# Altium footprint library LegacyTOxx.PcbLib: 110 footprints (part 1 of 7)
Each footprint in its own frame and in the unit in brackets; x right, y up, seen from the top. Pads: shape width x height; smd on the part's side, far side on the other; paste and mask are expansions set on the pad; w line width, h text height; cw(c..) or ccw(c..) is an arc to the next point about the centre after c.
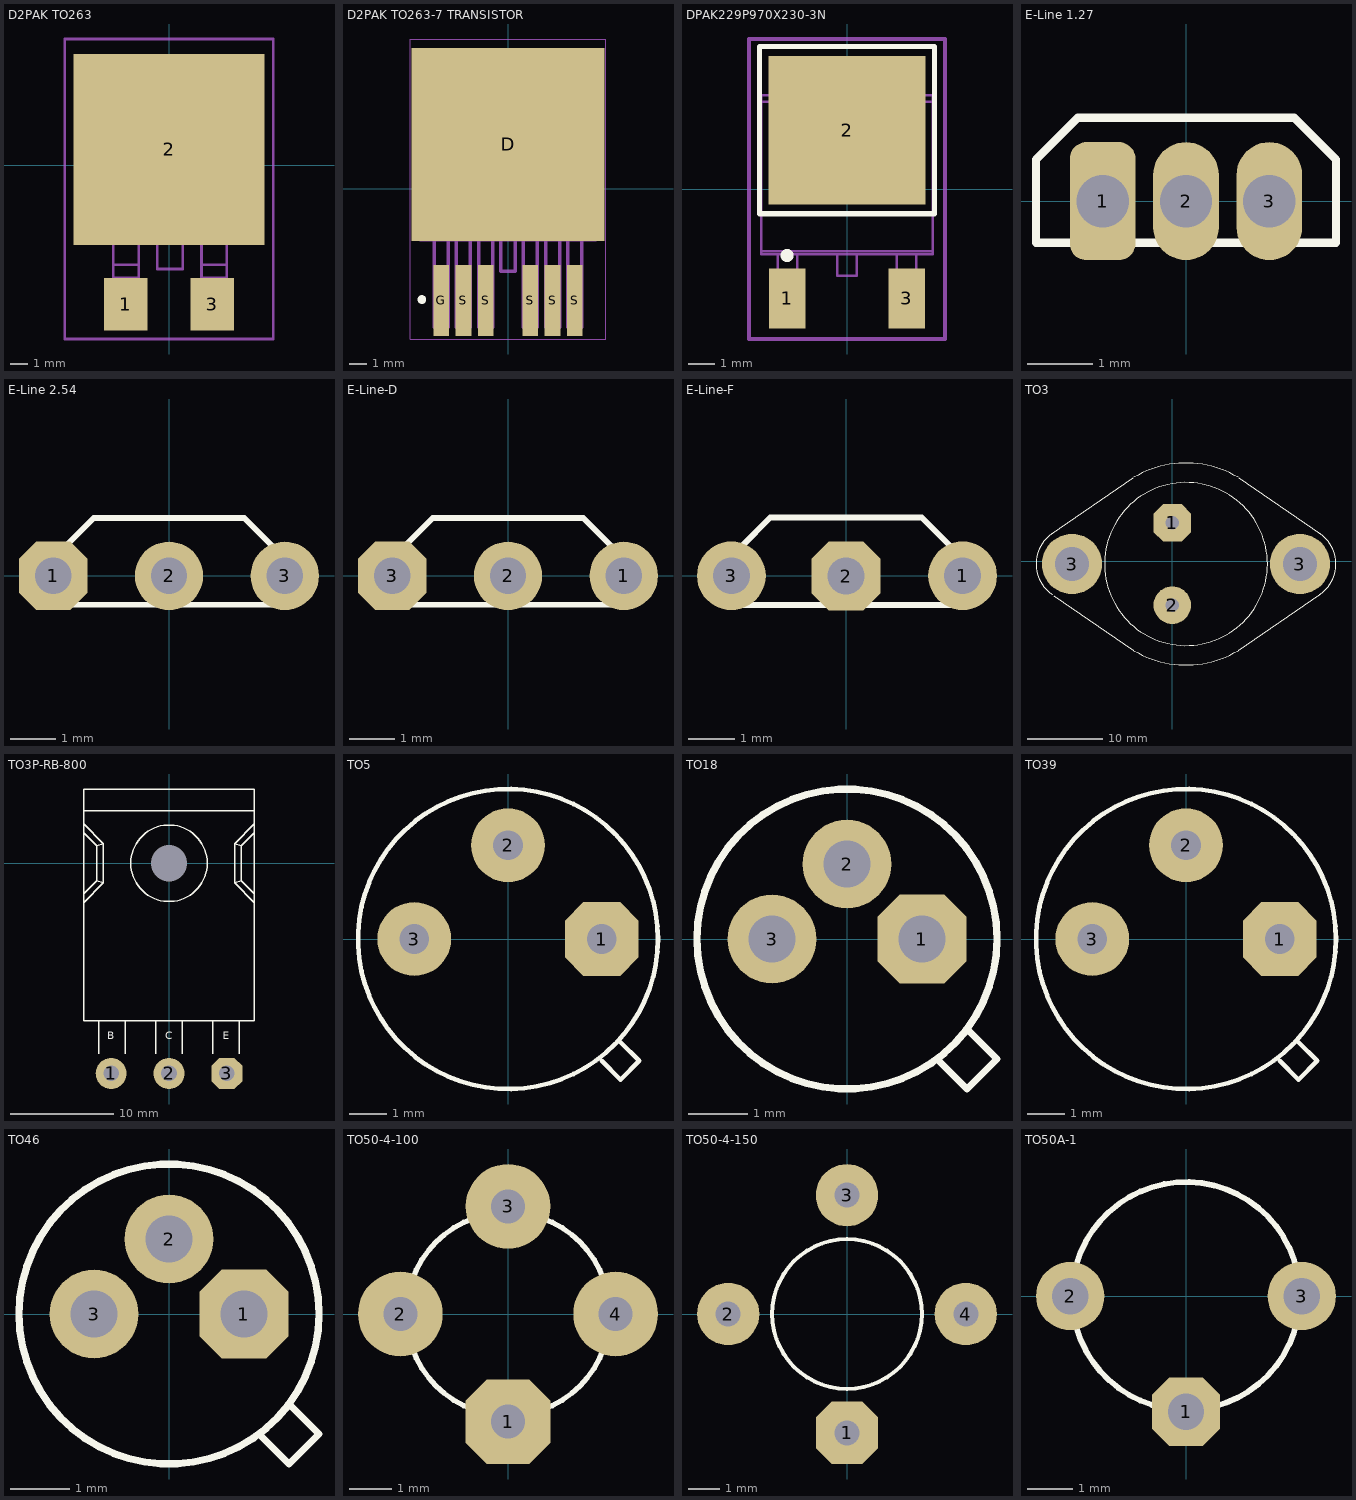
[diagram p0: the footprints below, top view; thin cyan lines are the x and y axes]

## D2PAK TO263 [mm]
pads (3):
  rect 2.5x3 smd: 1(-2.5,-8) 3(2.5,-8)
  rect 11x11 smd: 2(0,0.9)
Mechanical13:
  lines w0.15: -3.209,-4.263 -5.019,-4.263 ; -1.749,-4.263 -0.669,-4.263 ; 0.791,-4.263 1.871,-4.263 ; 3.331,-4.263 5.141,-4.263 ; -5.019,-4.263 -4.705,-3.949 ; -5.019,-4.263 -5.019,4.752 ; -5.019,4.752 -4.705,4.438 ; -5.019,4.752 -4.888,4.882 ; -4.888,4.882 5.011,4.882 ; -4.888,4.882 -4.888,5.226 -3.388,6.092 3.511,6.092 5.011,5.226 5.011,4.882 ; -4.705,-3.949 -4.705,4.438 ; -4.705,-3.949 4.827,-3.949 ; -4.705,4.438 4.827,4.438 ; -3.209,-6.49 -3.209,-5.729 ; -3.209,-6.49 -3.209,-6.806 -2.854,-6.806 -2.854,-7.122 ; -3.209,-6.49 -1.749,-6.49 ; -3.209,-5.729 -3.209,-4.193 -1.749,-4.193 -1.749,-5.729 ; -3.209,-5.729 -1.749,-5.729 ; -2.854,-9.135 -2.104,-9.135 ; -2.854,-9.135 -2.854,-7.395 ; -2.854,-9.135 -2.854,-9.172 -2.104,-9.172 -2.104,-9.135 ; -2.854,-7.395 -2.854,-7.122 ; -2.854,-7.395 -2.104,-7.395 ; -2.854,-7.122 -2.104,-7.122 ; -2.104,-9.135 -2.104,-7.395 ; -2.104,-7.395 -2.104,-7.122 ; -2.104,-7.122 -2.104,-6.806 -1.749,-6.806 -1.749,-6.49 ; -1.749,-6.49 -1.749,-5.729 ; 1.871,-6.49 1.871,-5.729 ; 1.871,-6.49 1.871,-6.806 2.226,-6.806 2.226,-7.122 ; 1.871,-6.49 3.331,-6.49 ; 1.871,-5.729 1.871,-4.193 3.331,-4.193 3.331,-5.729 ; 1.871,-5.729 3.331,-5.729 ; 2.226,-9.135 2.976,-9.135 ; 2.226,-9.135 2.226,-7.395 ; 2.226,-9.135 2.226,-9.172 2.976,-9.172 2.976,-9.135 ; 2.226,-7.395 2.226,-7.122 ; 2.226,-7.395 2.976,-7.395 ; 2.226,-7.122 2.976,-7.122 ; 2.976,-9.135 2.976,-7.395 ; 2.976,-7.395 2.976,-7.122 ; 2.976,-7.122 2.976,-6.806 3.331,-6.806 3.331,-6.49 ; 3.331,-6.49 3.331,-5.729 ; 4.827,-3.949 5.141,-4.263 ; 4.827,-3.949 4.827,4.438 ; 4.827,4.438 5.141,4.752 ; 5.011,4.882 5.141,4.752 ; 5.141,-4.263 5.141,4.752 ; -0.669,-5.973 0.791,-5.973 0.791,-4.193 -0.669,-4.193 -0.669,-5.973
Mechanical15:
  lines w0.15: -6,-10 6,-10 6,7.25 -6,7.25 -6,-10
3D body "User Library-DPAK (1).step": height 4.98, standoff -0.03, extent -5.08,-9.25 5.08,6.014

## D2PAK TO263-7 TRANSISTOR [mm] "D2-PAK, 7-Pads, Body 7,93x8,69mm (max), IPC Medium Density"
height 4.8
pads (7):
  rect 11x11 smd: D(0,2.54)
  rect 0.9x4.05 smd: G(-3.81,-6.35) S(-2.54,-6.35) S(-1.27,-6.35) S(1.27,-6.35) S(2.54,-6.35) S(3.81,-6.35)
TopOverlay:
  circle w0.25: c-4.91,-6.3 r0.125
Mechanical13:
  drawing of 182 lines, arcs and shapes, not listed
Mechanical15:
  lines w0.05: -5.575,-8.55 -5.575,8.55 5.575,8.55 5.575,-8.55 -5.575,-8.55
  lines w0.1: -0.5,0 0.5,0 ; 0,-0.5 0,0.5
3D body "SW3dPS-TO263-7S.STEP": height 4.88, standoff 0.08, extent -5,-7.869 5,7.801

## DPAK229P970X230-3N [mm] "D-PAK, 3-Pads, Body 6,20x6,71mm (max), IPC Medium Density"
height 2.3
pads (3):
  rect 1.4x2.3 smd: 1(-2.286,-4.191) 3(2.286,-4.191)
  rect 6x5.7 smd: 2(0,2.25)
TopOverlay:
  circle w0.25: c-2.3,-2.55 r0.125
  lines w0.2: -3.35,-0.95 3.35,-0.95 3.35,5.461 -3.35,5.461 -3.35,-0.95
Mechanical3:
  text ".Designator / .Comment" at -3.175,-1.016 h1.5
Mechanical13:
  lines w0.1: -3.29,-2.39 -3.29,-2.5 -2.66,-2.5 ; -3.29,-2.39 3.29,-2.39 ; -3.29,-2.39 -3.29,3.35 ; -3.29,3.35 -3.29,3.6 -2.68,3.6 ; -3.29,3.35 3.29,3.35 ; -2.68,3.6 -1.675,3.6 ; -2.68,3.6 -2.68,4.8 -1.93,4.8 -1.93,4.3 1.93,4.3 1.93,4.8 2.68,4.8 2.68,3.6 ; -2.66,-4.3 -2.66,-4.1 ; -2.66,-4.3 -2.66,-4.9 -1.91,-4.9 -1.91,-4.3 ; -2.66,-4.3 -1.91,-4.3 ; -2.66,-4.1 -1.91,-4.1 ; -2.66,-4.1 -2.66,-3.45 ; -2.66,-3.45 -2.66,-2.5 ; -2.66,-3.45 -1.91,-3.45 ; -2.66,-2.5 -1.91,-2.5 ; -1.91,-4.3 -1.91,-4.1 ; -1.91,-4.1 -1.91,-3.45 ; -1.91,-3.45 -1.91,-2.5 ; -1.91,-2.5 -0.375,-2.5 ; -1.675,3.6 cw(c-1.43,3.55) -1.43,3.8 1.43,3.8 cw(c1.43,3.55) 1.675,3.6 ; -1.675,3.6 1.675,3.6 ; -0.375,-2.5 0.375,-2.5 ; -0.375,-2.5 -0.375,-3.33 0.375,-3.33 0.375,-2.5 ; 0.375,-2.5 1.91,-2.5 ; 1.675,3.6 2.68,3.6 ; 1.91,-4.3 1.91,-4.1 ; 1.91,-4.3 1.91,-4.9 2.66,-4.9 2.66,-4.3 ; 1.91,-4.3 2.66,-4.3 ; 1.91,-4.1 2.66,-4.1 ; 1.91,-4.1 1.91,-3.45 ; 1.91,-3.45 1.91,-2.5 ; 1.91,-3.45 2.66,-3.45 ; 1.91,-2.5 2.66,-2.5 ; 2.66,-4.3 2.66,-4.1 ; 2.66,-4.1 2.66,-3.45 ; 2.66,-3.45 2.66,-2.5 ; 2.66,-2.5 3.29,-2.5 3.29,-2.39 ; 2.68,3.6 3.29,3.6 3.29,3.35 ; 3.29,-2.39 3.29,3.35
Mechanical15:
  lines w0.15: -0.5,0 0.5,0 ; 0,-0.5 0,0.5 ; -3.75,-5.75 3.75,-5.75 3.75,5.75 -3.75,5.75 -3.75,-5.75
3D body "TO-252.STEP": height 2.35, standoff 0, extent -3.29,-5.06 3.29,5.08

## E-Line 1.27 [mm]
pads (3):
  rrect50% 1x1.8 hole 0.8: 1(-1.27,0)
  oval 1x1.8 hole 0.8: 2(0,0) 3(1.27,0)
TopOverlay:
  lines w0.125: -2.286,-0.635 2.286,-0.635 2.286,0.635 1.651,1.27 -1.651,1.27 -2.286,0.635 -2.286,-0.635
3D body "E-Line-B.STEP": height 7.08, standoff -2, extent -2.4,-0.985 2.4,1.415

## E-Line 2.54 [mm]
pads (3):
  oct 1.5x1.5 hole 0.8: 1(-2.54,0)
  round 1.5 hole 0.8: 2(0,0) 3(2.54,0)
TopOverlay:
  lines w0.125: -2.286,-0.635 2.286,-0.635 2.286,0.635 1.651,1.27 -1.651,1.27 -2.286,0.635 -2.286,-0.635
3D body "E-Line-C.STEP": height 8, standoff -3.02, extent -2.788,-1.205 2.787,1.195

## E-Line-D [mm]
pads (3):
  round 1.5 hole 0.8: 1(2.54,0) 2(0,0)
  oct 1.5x1.5 hole 0.8: 3(-2.54,0)
TopOverlay:
  lines w0.125: -2.286,-0.635 -2.286,0.635 -1.651,1.27 1.651,1.27 2.286,0.635 2.286,-0.635 -2.286,-0.635
3D body "E-Line-C.STEP": height 8, standoff -3.02, extent -2.788,-1.205 2.787,1.195

## E-Line-F [mm]
pads (3):
  round 1.5 hole 0.8: 1(2.54,0) 3(-2.5,0)
  oct 1.5x1.5 hole 0.8: 2(-0.001,-0.005)
TopOverlay:
  lines w0.125: -2.286,-0.635 -2.286,0.635 -1.651,1.27 1.651,1.27 2.286,0.635 2.286,-0.635 -2.286,-0.635
3D body "E-Line-C.STEP": height 8, standoff -3.02, extent -2.788,-1.205 2.787,1.195

## TO3 [mm]
pads (4):
  oct 5x5 hole 1.8: 1(0,5.08)
  round 5 hole 1.8: 2(0,-5.842)
  round 8 hole 4.5: 3(-13.297,-0.381) 3(16.929,-0.381)
TopOverlay:
  circle w0.125: c1.816,-0.381 r10.813
  lines w0.125: -15.964,3.641 -5.169,11.049 ; -15.935,-4.417 cw(c-13.212,-0.381) -15.935,3.655 ; -15.752,-4.614 -5.169,-11.811 ; -5.085,-11.866 ccw(c1.816,-0.381) 8.717,-11.866 ; -5.085,11.104 cw(c1.816,-0.381) 8.717,11.104 ; 8.801,-11.811 19.596,-4.403 ; 8.801,11.049 19.596,3.641 ; 19.567,-4.417 ccw(c16.844,-0.381) 19.567,3.655

## TO3P-RB-800 [mm]
pads (4):
  round 0 hole 3.5 unplated: 0(0,0)
  round 3 hole 1.5: 1(-5.588,-20.32) 2(0,-20.32)
  oct 3x3 hole 1.5: 3(5.588,-20.32)
TopOverlay:
  circle w0.125: c0,0 r3.698
  lines w0.125: -8.255,-3.81 -6.35,-1.905 ; -8.255,-2.963 -6.985,-1.693 ; -8.255,2.963 -6.985,1.693 ; -8.255,3.81 -6.35,1.905 ; -8.255,5.08 8.255,5.08 ; -6.773,-18.415 -6.773,-15.24 ; -4.233,-18.415 -4.233,-15.24 ; -1.27,-18.415 -1.27,-15.24 ; 1.27,-18.415 1.27,-15.24 ; 4.233,-18.415 4.233,-15.24 ; 6.773,-18.415 6.773,-15.24 ; 8.255,-3.81 6.35,-1.905 ; 8.255,-2.963 6.985,-1.693 ; 8.255,2.963 6.985,1.693 ; 8.255,3.81 6.35,1.905 ; -6.985,-1.693 -6.985,1.693 ; -6.985,-1.693 -6.35,-1.905 ; -6.985,1.693 -6.35,1.905 ; -6.35,-1.905 -6.35,1.905 ; 6.35,-1.905 6.35,1.905 ; 6.35,-1.905 6.985,-1.693 ; 6.35,1.905 6.985,1.693 ; 6.985,-1.693 6.985,1.693 ; -8.255,-15.24 8.255,-15.24 8.255,7.179 -8.255,7.179 -8.255,-15.24
  text "B" at -5.969,-17.272 h1.27
  text "E" at 5.207,-17.272 h1.27
  text "C" at -0.381,-17.272 h1.27
3D body "TO3P-LR.STEP": height 9.39, standoff -6.78, extent -8.001,-20.707 8.001,7.179

## TO5 [mm]
pads (3):
  oct 2x2 hole 0.8: 1(2.54,0)
  round 2 hole 0.8: 2(0,2.54) 3(-2.54,0)
TopOverlay:
  circle w0.125: c0,0 r4.064
  lines w0.125: 2.54,-3.302 3.048,-3.81 3.556,-3.302 3.048,-2.794

## TO18 [mm]
pads (3):
  oct 1.5x1.5 hole 0.8: 1(1.27,0)
  round 1.5 hole 0.8: 2(0,1.27) 3(-1.27,0)
TopOverlay:
  circle w0.125: c0,0 r2.54
  lines w0.125: 1.524,-2.032 2.032,-2.54 2.54,-2.032 2.032,-1.524

## TO39 [mm]
pads (3):
  oct 2x2 hole 0.8: 1(2.54,0)
  round 2 hole 0.8: 2(0,2.54) 3(-2.54,0)
TopOverlay:
  circle w0.125: c0,0 r4.064
  lines w0.125: 2.54,-3.302 3.048,-3.81 3.556,-3.302 3.048,-2.794

## TO46 [mm]
pads (3):
  oct 1.5x1.5 hole 0.8: 1(1.27,0)
  round 1.5 hole 0.8: 2(0,1.27) 3(-1.27,0)
TopOverlay:
  circle w0.125: c0,0 r2.54
  lines w0.125: 1.524,-2.032 2.032,-2.54 2.54,-2.032 2.032,-1.524

## TO50-4-100 [mm]
pads (4):
  oct 2x2 hole 0.8: 1(0,-2.54)
  round 2 hole 0.8: 2(-2.54,0) 3(0,2.54) 4(2.54,0)
TopOverlay:
  circle w0.125: c0,0 r2.4
3D body "TO-50-100.STEP": height 1.53, standoff -2.31, extent -2.64,-2.64 2.64,2.64

## TO50-4-150 [mm]
pads (4):
  oct 2x2 hole 0.8: 1(0,-3.81)
  round 2 hole 0.8: 2(-3.81,0) 3(0,3.81) 4(3.81,0)
TopOverlay:
  circle w0.125: c0,0 r2.4
3D body "TO-50-150.STEP": height 1.53, standoff -2.31, extent -3.91,-3.91 3.91,3.91

## TO50A-1 [mm]
pads (3):
  oct 1.5x1.5 hole 0.8: 1(0,-2.54)
  round 1.5 hole 0.8: 2(-2.54,0) 3(2.54,0)
TopOverlay:
  circle w0.125: c0,0 r2.502